# EAGLE library part 750315092 (library wurth_electronics_midcom_inc_v2-1)
Package Style: RM10 Mounting: THT Pins: 12 pins Bobbin: 070-5622 Best pinouts for production vary per application. Please contact Wurth Electronics Midcom, Inc. for assistance with your custom design. Website: Wurth Electronics Midcom <http://www.we-online.com/midcom> Contact us Wurth Electronics Midcom, Inc. 121 Airport Dr. Watertown, SD 57201 Phone: (605) 886-4385 Fax: (605) 886-4486 E-Mail: midcom@we-online.com
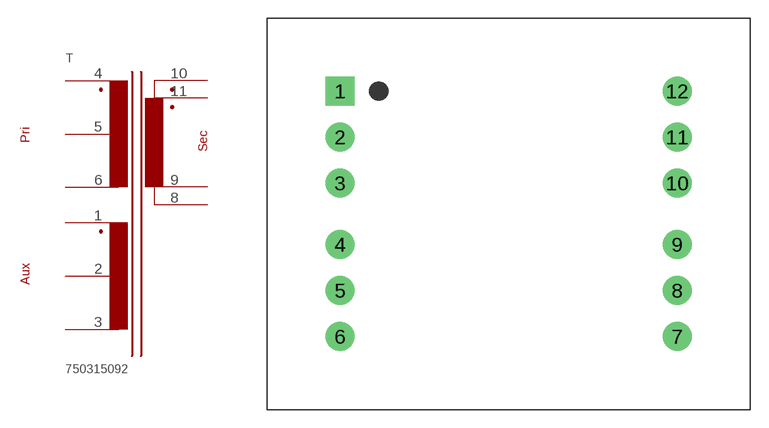
[diagram p103: symbol with the pads of RM10_THT_H_12PIN_(5622); footprint RM10_THT_H_12PIN_(5622)]

Designator prefix T

## 750315092  [RM10_THT_H_12PIN_(5622)]
1  1  pas
2  2  pas
3  3  pas
4  4  pas
5  5  pas
6  6  pas
8  8  pas
9  9  pas
10  10  pas
11  11  pas

## Footprint RM10_THT_H_12PIN_(5622) (pad centres in mm)
Package Style: RM10 Mounting: THT Pins: 12 Bobbin: 070-5622
drill 1.6 square: 1 -13.945,10.16
drill 1.6: 2 -13.945,6.35; 3 -13.945,2.54; 4 -13.945,-2.54; 5 -13.945,-6.35; 6 -13.945,-10.16; 7 13.945,-10.16; 8 13.945,-6.35; 9 13.945,-2.54; 10 13.945,2.54; 11 13.945,6.35; 12 13.945,10.16